# Altium footprint library CellVoltageControl.PcbLib: 26 footprints (part 1 of 2)
Each footprint in its own frame and in the unit in brackets; x right, y up, seen from the top. Pads: shape width x height; smd on the part's side, far side on the other; paste and mask are expansions set on the pad; w line width, h text height; cw(c..) or ccw(c..) is an arc to the next point about the centre after c.
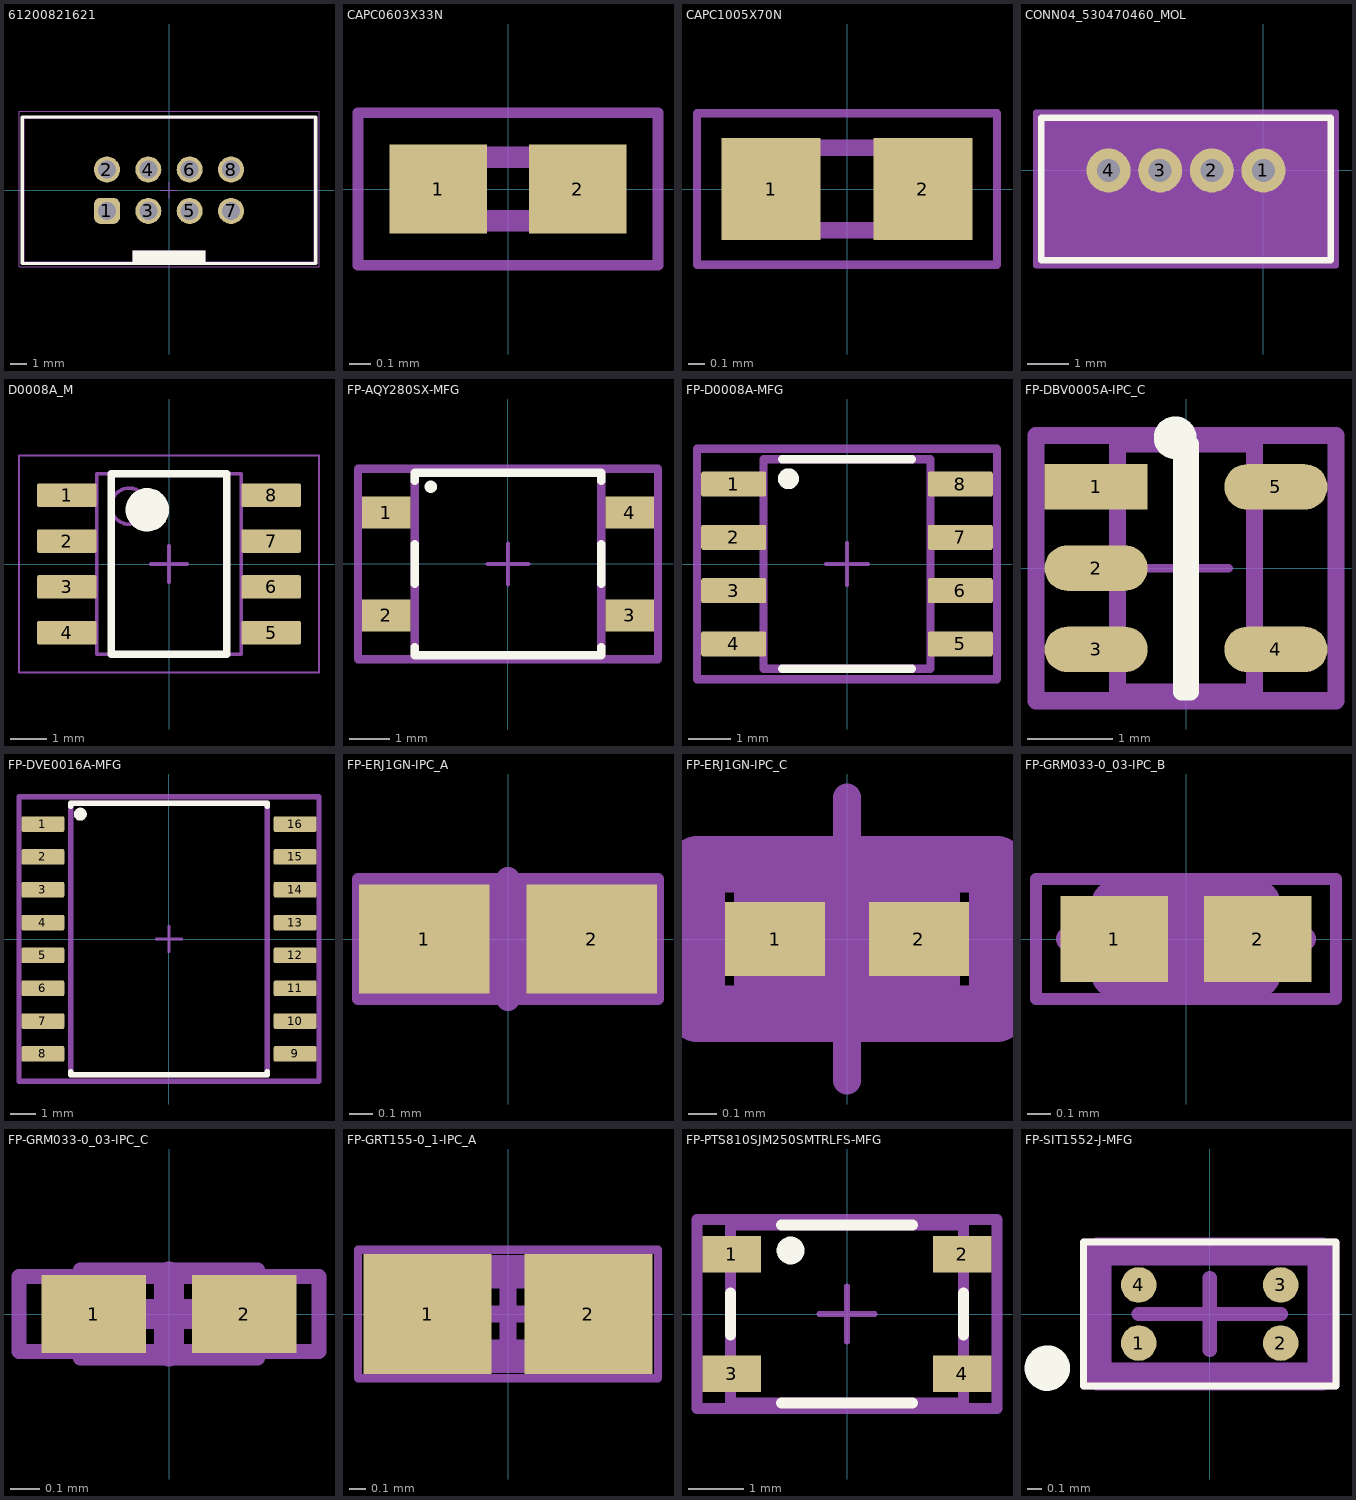
[diagram p0: the footprints below, top view; thin cyan lines are the x and y axes]

## 61200821621 [mm] "8 pins, straight, gold plating"
height 9.1
pads (8):
  rrect50% 1.6x1.6 hole 1.1: 1(-3.81,-1.27)
  round 1.6 hole 1.1: 2(-3.81,1.27) 3(-1.27,-1.27) 4(-1.27,1.27) 5(1.27,-1.27) 6(1.27,1.27) 7(3.81,-1.27) 8(3.81,1.27)
Top Overlay:
  rectangle: -2.25,-4.5 2.25,-3.7
  lines w0.2: -9.01,-4.5 9.01,-4.5 9.01,4.5 -9.01,4.5 -9.01,-4.5
Top 3D Body:
  rectangle: -2.25,-4.425 2.25,-3.7
  lines w0.1: -8.91,-4.425 8.91,-4.425 8.91,4.425 -8.91,4.425 -8.91,-4.425
Top Courtyard:
  lines w0.05: -0.5,0 0.5,0 ; 0,-0.5 0,0.5 ; -9.21,-4.7 9.21,-4.7 9.21,4.85 -9.21,4.85 -9.21,-4.7
Top Designator:
  text ".Designator" at -7.498,-0.5 h1.5
Top Component Outline:
  rectangle: -2.25,-4.425 2.25,-3.7
  lines w0.1: -8.91,-4.425 -8.91,4.425 8.91,4.425 8.91,-4.425 -8.91,-4.425
3D body "61200821621.stp": height 9.13, standoff -2.98, extent -8.91,-4.425 8.91,4.75

## CAPC0603X33N [mm]
height 2.95
pads (2):
  rect 0.46x0.42 smd: 1(-0.33,0) 2(0.33,0)
Mechanical 13:
  lines w0.1: -0.3,-0.15 -0.3,0.15 0.3,0.15 0.3,-0.15 -0.3,-0.15
Mechanical 15:
  lines w0.05: -0.71,-0.36 -0.71,0.36 0.71,0.36 0.71,-0.36 -0.71,-0.36
3D body "GRM033C81E104KE14D.stp": height 0.33, standoff 0, extent -0.3,-0.15 0.3,0.15

## CAPC1005X70N [mm]
height 2.95
pads (2):
  rect 0.6x0.62 smd: 1(-0.46,0) 2(0.46,0)
Mechanical 13:
  lines w0.1: -0.5,-0.25 0.5,-0.25 0.5,0.25 -0.5,0.25 -0.5,-0.25
Mechanical 15:
  lines w0.05: -0.91,-0.46 0.91,-0.46 0.91,0.46 -0.91,0.46 -0.91,-0.46
3D body "GRM155F51E104ZA01D.stp": height 0.5, standoff 0, extent -0.5,-0.25 0.5,0.25

## CONN04_530470460_MOL [mil]
height 15.75
pads (4):
  round 42 / inner round 60 / far side round 42 hole 22 paste-99999 mask+0: 1(0,0) 2(-49.21,0) 3(-98.43,0) 4(-147.64,0)
Top Overlay:
  lines w6: -211.82,-85.72 -211.82,50.28 64.18,50.28 64.18,-85.72 -211.82,-85.72
Mechanical 13:
  lines w1: -206.82,-80.72 -206.82,45.28 59.18,45.28 59.18,-80.72 -206.82,-80.72
  text "RefDes2" at -180,-70 h33.07
Mechanical 15:
  region: 69.18,55.28 -216.82,55.28 -216.82,-90.72 69.18,-90.72
  lines w6: -216.82,-90.72 69.18,-90.72 69.18,55.28 -216.82,55.28 -216.82,-90.72
3D body "0530470460.stp": height 165.63, standoff -90.28, extent -207.87,-80 57.87,45.98

## D0008A_M [mm] "SOIC, 8-Leads, Body 5x4mm, Pitch 1.27mm, IPC Low Density"
height 1.75
pads (8):
  rrect15% 1.65x0.65 smd: 1(-2.825,1.905) 2(-2.825,0.635) 3(-2.825,-0.635) 4(-2.825,-1.905) 5(2.825,-1.905) 6(2.825,-0.635) 7(2.825,0.635) 8(2.825,1.905)
Top Overlay:
  circle w0.6: c-0.6,1.5 r0.3
  lines w0.2: -1.6,-2.5 -1.6,2.5 1.6,2.5 1.6,-2.5 -1.6,-2.5
Mechanical 1:
  text ".Designator" at -1.397,-0.254 h0.6
Mechanical 13:
  circle w0.1: c-1.1,1.6 r0.5
  lines w0.1: -2,-2.5 -2,2.5 2,2.5 2,-2.5 -2,-2.5
Mechanical 15:
  lines w0.05: -4.15,-3 -4.15,3 4.15,3 4.15,-3 -4.15,-3
  lines w0.1: -0.5,0 0.5,0 ; 0,-0.5 0,0.5
3D body "SOIC-8akaD0008AakaM08A.stp": height 1.63, standoff 0, extent -3,-2.45 3,2.45

## FP-AQY280SX-MFG [mm]
height 2.95
pads (4):
  rect 1.2x0.8 smd paste+0 mask+0: 1(-3,1.27) 2(-3,-1.27) 3(3,-1.27) 4(3,1.27)
Top Overlay:
  circle w0.152: c-1.905,1.905 r0.076
  lines w0.2: -2.3,-2.045 -2.3,-2.25 2.3,-2.25 2.3,-2.045 ; -2.3,-0.495 -2.3,0.495 ; -2.3,2.045 -2.3,2.25 2.3,2.25 2.3,2.045 ; 2.3,-0.495 2.3,0.495
Top 3D Body:
  lines w0.2: -2.3,-2.25 -2.3,2.25 2.3,2.25 2.3,-2.25 -2.3,-2.25
Top Courtyard:
  lines w0.2: -3.7,-2.35 -3.7,2.35 3.7,2.35 3.7,-2.35 -3.7,-2.35
Top Assembly:
  lines w0.2: -3.7,-2.35 3.7,-2.35 3.7,2.35 -3.7,2.35 -3.7,-2.35
  text ".Designator" at -4.699,-0.066 h1
Top Component Center:
  lines w0.1: -0.5,0 0.5,0 ; 0,-0.5 0,0.5
3D body "Relay_Panasonic_AQY280SX_eec.STEP": height 0.25, standoff 0, extent -3.7,-2.35 3.7,2.35

## FP-D0008A-MFG [mm]
pads (8):
  rrect17% 1.55x0.6 smd paste+0 mask+0: 1(-2.7,1.905) 2(-2.7,0.635) 3(-2.7,-0.635) 4(-2.7,-1.905) 5(2.7,-1.905) 6(2.7,-0.635) 7(2.7,0.635) 8(2.7,1.905)
Top Overlay:
  circle w0.25: c-1.397,2.032 r0.125
  lines w0.2: -1.55,-2.5 1.55,-2.5 ; -1.55,2.5 1.55,2.5
Top 3D Body:
  lines w0.2: -1.99,-2.5 1.99,-2.5 1.99,2.5 -1.99,2.5 -1.99,-2.5
Top Courtyard:
  lines w0.2: -3.575,-2.75 3.575,-2.75 3.575,2.75 -3.575,2.75 -3.575,-2.75
Top Assembly:
  lines w0.2: -3.575,-2.75 3.575,-2.75 3.575,2.75 -3.575,2.75 -3.575,-2.75
  text ".Designator" at 0,0.188 h1
Top Component Center:
  lines w0.1: -0.5,0 0.5,0 ; 0,-0.5 0,0.5
3D body "IC_Texas_Instruments_ISO1540DR_eec.STEP": height 0.25, standoff 0, extent -3.575,-2.75 3.575,2.75

## FP-DBV0005A-IPC_C [mm]
pads (5):
  rect 1.205x0.532 smd paste+0 mask+0: 1(-1.05,0.95)
  rrect100% 1.205x0.532 smd paste+0 mask+0: 2(-1.05,0) 3(-1.05,-0.95) 4(1.05,-0.95) 5(1.05,0.95)
Top Overlay:
  circle w0.25: c-0.127,1.524 r0.125
  lines w0.2: -0.052,-1.45 0.052,-1.45 0.052,1.45 -0.052,1.45 -0.052,-1.45
Top 3D Body:
  lines w0.2: -0.8,-1.45 -0.8,1.45 0.8,1.45 0.8,-1.45 -0.8,-1.45
Top Courtyard:
  lines w0.2: -1.753,-1.55 -1.753,1.55 1.753,1.55 1.753,-1.55 -1.753,-1.55
Top Assembly:
  lines w0.2: -1.753,-1.55 1.753,-1.55 1.753,1.55 -1.753,1.55 -1.753,-1.55
  text ".Designator" at 0,0.188 h1
Top Component Center:
  lines w0.1: -0.5,0 0.5,0 ; 0,-0.5 0,0.5
3D body "IC_Texas_Instruments_SN74AHC1G00DBVR_eec.STEP": height 0.25, standoff 0, extent -1.753,-1.55 1.753,1.55

## FP-DVE0016A-MFG [mm]
pads (16):
  rrect17% 1.65x0.6 smd paste+0 mask+0: 1(-4.875,4.445) 2(-4.875,3.175) 3(-4.875,1.905) 4(-4.875,0.635) 5(-4.875,-0.635) 6(-4.875,-1.905) 7(-4.875,-3.175) 8(-4.875,-4.445) 9(4.875,-4.445) 10(4.875,-3.175) 11(4.875,-1.905) 12(4.875,-0.635) 13(4.875,0.635) 14(4.875,1.905) 15(4.875,3.175) 16(4.875,4.445)
Top Overlay:
  circle w0.25: c-3.429,4.826 r0.125
  lines w0.2: -3.8,-5.12 -3.8,-5.25 3.8,-5.25 3.8,-5.12 ; -3.8,5.12 -3.8,5.25 3.8,5.25 3.8,5.12
Top 3D Body:
  lines w0.2: -3.8,-5.25 -3.8,5.25 3.8,5.25 3.8,-5.25 -3.8,-5.25
Top Courtyard:
  lines w0.2: -5.8,-5.5 -5.8,5.5 5.8,5.5 5.8,-5.5 -5.8,-5.5
Top Assembly:
  lines w0.2: -5.8,-5.5 -5.8,5.5 5.8,5.5 5.8,-5.5 -5.8,-5.5
  text ".Designator" at 0,0.188 h1
Top Component Center:
  lines w0.1: -0.5,0 0.5,0 ; 0,-0.5 0,0.5
3D body "IC_Texas_Instruments_UCC12040DVER_eec.STEP": height 0.25, standoff 0, extent -5.8,-5.5 5.8,5.5

## FP-ERJ1GN-IPC_A [mm]
pads (2):
  rect 0.554x0.463 smd paste+0 mask+0: 1(-0.354,0) 2(0.354,0)
Top 3D Body:
  lines w0.2: -0.3,-0.15 -0.3,0.15 0.3,0.15 0.3,-0.15 -0.3,-0.15
Top Courtyard:
  lines w0.05: -0.635,-0.254 -0.635,0.254 0.635,0.254 0.635,-0.254 -0.635,-0.254
Top Assembly:
  lines w0.05: -0.635,-0.254 -0.635,0.254 0.635,0.254 0.635,-0.254 -0.635,-0.254
  text ".Designator" at 0,-0.001 h1
Top Component Center:
  lines w0.1: -0.5,0 0.5,0 -0.5,0 ; 0,-0.254 0,0.254 0,-0.254
3D body "Res_Panasonic_Electronic_Components_ERJ-1GNF4872C_eec.STEP": height 0.25, standoff 0, extent -0.831,-0.431 0.831,0.431

## FP-ERJ1GN-IPC_C [mm]
height 10.5
pads (2):
  rect 0.354x0.263 smd paste+0 mask+0: 1(-0.254,0) 2(0.254,0)
Top 3D Body:
  lines w0.2: -0.3,-0.15 -0.3,0.15 0.3,0.15 0.3,-0.15 -0.3,-0.15
Top Courtyard:
  lines w0.2: -0.531,-0.265 -0.531,0.265 0.531,0.265 0.531,-0.265 -0.531,-0.265
Top Assembly:
  lines w0.2: -0.531,-0.265 -0.531,0.265 0.531,0.265 0.531,-0.265 -0.531,-0.265
  text ".Designator" at 0,-0.001 h1
Top Component Center:
  lines w0.1: -0.5,0 0.5,0 -0.5,0 ; 0,-0.5 0,0.5 0,-0.5
3D body "Res_Panasonic_Electronic_Components_ERJ-1GNF4872C_eec.STEP": height 0.25, standoff 0, extent -0.531,-0.265 0.531,0.265

## FP-GRM033-0_03-IPC_B [mm]
height 2.95
pads (2):
  rect 0.454x0.363 smd paste+0 mask+0: 1(-0.304,0) 2(0.304,0)
Top 3D Body:
  lines w0.2: -0.3,-0.15 -0.3,0.15 0.3,0.15 0.3,-0.15 -0.3,-0.15
Top Courtyard:
  lines w0.05: -0.635,-0.254 -0.635,0.254 0.635,0.254 0.635,-0.254 -0.635,-0.254
Top Assembly:
  lines w0.05: -0.635,-0.254 -0.635,0.254 0.635,0.254 0.635,-0.254 -0.635,-0.254
  text ".Designator" at 0,0.188 h1
Top Component Center:
  lines w0.1: -0.5,0 0.5,0 ; 0,-0.127 0,0.127
3D body "Cap_Murata_GRM0335C1HR30BA01D_eec.STEP": height 0.25, standoff 0, extent -0.681,-0.331 0.681,0.331

## FP-GRM033-0_03-IPC_C [mm]
pads (2):
  rect 0.354x0.263 smd paste+0 mask+0: 1(-0.254,0) 2(0.254,0)
Top 3D Body:
  lines w0.05: -0.3,-0.15 -0.3,0.15 0.3,0.15 0.3,-0.15 -0.3,-0.15
Top Courtyard:
  lines w0.05: -0.508,-0.127 -0.508,0.127 0.508,0.127 0.508,-0.127 -0.508,-0.127
Top Assembly:
  lines w0.05: -0.508,-0.127 -0.508,0.127 0.508,0.127 0.508,-0.127 -0.508,-0.127
  text ".Designator" at 0,0.188 h1
Top Component Center:
  lines w0.1: -0.254,0 0.254,0 ; 0,-0.127 0,0.127
3D body "Cap_Murata_GRM0335C1HR30BA01D_eec.STEP": height 0.25, standoff 0, extent -0.531,-0.265 0.531,0.265

## FP-GRT155-0_1-IPC_A [mm]
height 2.95
pads (2):
  rect 0.76x0.712 smd paste+0 mask+0: 1(-0.476,0) 2(0.476,0)
Top 3D Body:
  lines w0.2: -0.5,-0.25 -0.5,0.25 0.5,0.25 0.5,-0.25 -0.5,-0.25
Top Courtyard:
  lines w0.05: -0.889,-0.381 -0.889,0.381 0.889,0.381 0.889,-0.381 -0.889,-0.381
Top Assembly:
  lines w0.05: -0.889,-0.381 -0.889,0.381 0.889,0.381 0.889,-0.381 -0.889,-0.381
  text ".Designator" at 0,0.188 h1
Top Component Center:
  lines w0.1: -0.5,0 0.5,0 ; 0,-0.254 0,0.254
3D body "Cap_Murata_GRT155R60J475ME13D_eec.STEP": height 0.25, standoff 0, extent -1.056,-0.556 1.056,0.556

## FP-PTS810SJM250SMTRLFS-MFG [mm]
height 2.95
pads (4):
  rect 1.05x0.65 smd paste+0 mask+0: 1(-2.075,1.075) 2(2.075,1.075) 3(-2.075,-1.075) 4(2.075,-1.075)
Top Overlay:
  circle w0.25: c-1.016,1.143 r0.125
  lines w0.2: -2.1,-0.375 -2.1,0.375 ; -1.175,-1.6 1.175,-1.6 ; -1.175,1.6 1.175,1.6 ; 2.1,-0.375 2.1,0.375
Top 3D Body:
  lines w0.2: -2.1,-1.6 -2.1,1.6 2.1,1.6 2.1,-1.6 -2.1,-1.6
Top Courtyard:
  lines w0.2: -2.7,-1.7 -2.7,1.7 2.7,1.7 2.7,-1.7 -2.7,-1.7
Top Assembly:
  lines w0.2: -2.7,-1.7 -2.7,1.7 2.7,1.7 2.7,-1.7 -2.7,-1.7
  text ".Designator" at 0,0.188 h1
Top Component Center:
  lines w0.1: -0.5,0 0.5,0 ; 0,-0.5 0,0.5
3D body "Switch_C&K_Components_PTS810SJM250SMTRLFS_eec.STEP": height 0.25, standoff 0, extent -2.7,-1.7 2.7,1.7

## FP-SIT1552-J-MFG [mm]
height 2.95
pads (4):
  round 0.25 smd paste+0 mask-1000: 1(-0.5,-0.205) 2(0.5,-0.205) 3(0.5,0.205) 4(-0.5,0.205)
Top Overlay:
  circle w0.16: c-1.143,-0.381 r0.08
  lines w0.05: -0.889,-0.508 0.889,-0.508 0.889,0.508 -0.889,0.508 -0.889,-0.508
Top Solder:
  circle w0.175: c-0.5,-0.205 r0.088
  circle w0.175: c0.5,-0.205 r0.088
  circle w0.175: c-0.5,0.205 r0.088
  circle w0.175: c0.5,0.205 r0.088
Top 3D Body:
  lines w0.2: -0.79,-0.44 0.79,-0.44 0.79,0.44 -0.79,0.44 -0.79,-0.44
Top Courtyard:
  lines w0.05: -0.889,-0.508 -0.889,0.508 0.889,0.508 0.889,-0.508 -0.889,-0.508
Top Assembly:
  lines w0.05: -0.889,-0.508 -0.889,0.508 0.889,0.508 0.889,-0.508 -0.889,-0.508
  text ".Designator" at 0,0.188 h1
Top Component Center:
  lines w0.1: -0.5,0 0.5,0 ; 0,-0.254 0,0.254
3D body "Crys_SiTime_SIT1552AI-JE-DCC-32_768S_eec.STEP": height 0.25, standoff 0, extent -1.29,-0.94 1.29,0.94